# EAGLE library part A-DS09A/KG-T2S (library ruark2)
9 Position D-Sub Plug, Male Pins Connector
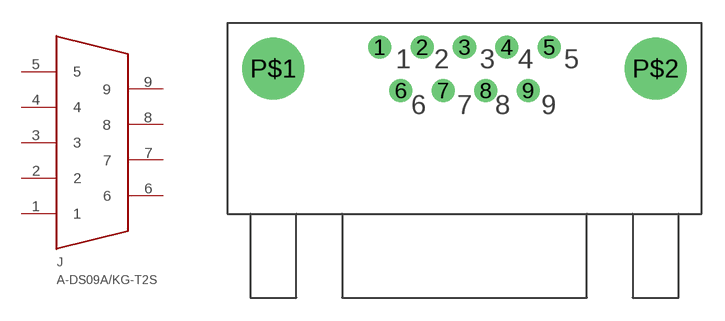
[diagram p120: symbol with the pads of A-DS09A/KG-T2S; footprint A-DS09A/KG-T2S]

Designator prefix J

## A-DS09A/KG-T2S (PARTNO: AE10968-ND)  [A-DS09A/KG-T2S]
1  1
2  2
3  3
4  4
5  5
6  6
7  7
8  8
9  9

## Footprint A-DS09A/KG-T2S (pad centres in mm)
drill 1: 1 -5.54,1.42; 2 -2.77,1.42; 3 0,1.42; 4 2.77,1.42; 5 5.54,1.42; 6 -4.155,-1.42; 7 -1.385,-1.42; 8 1.385,-1.42; 9 4.155,-1.42
drill 3.05: P$1 -12.495,0; P$2 12.495,0